# Altium footprint library PCBLib.PcbLib: 168 footprints (part 11 of 11)
Each footprint in its own frame and in the unit in brackets; x right, y up, seen from the top. Pads: shape width x height; smd on the part's side, far side on the other; paste and mask are expansions set on the pad; w line width, h text height; cw(c..) or ccw(c..) is an arc to the next point about the centre after c.
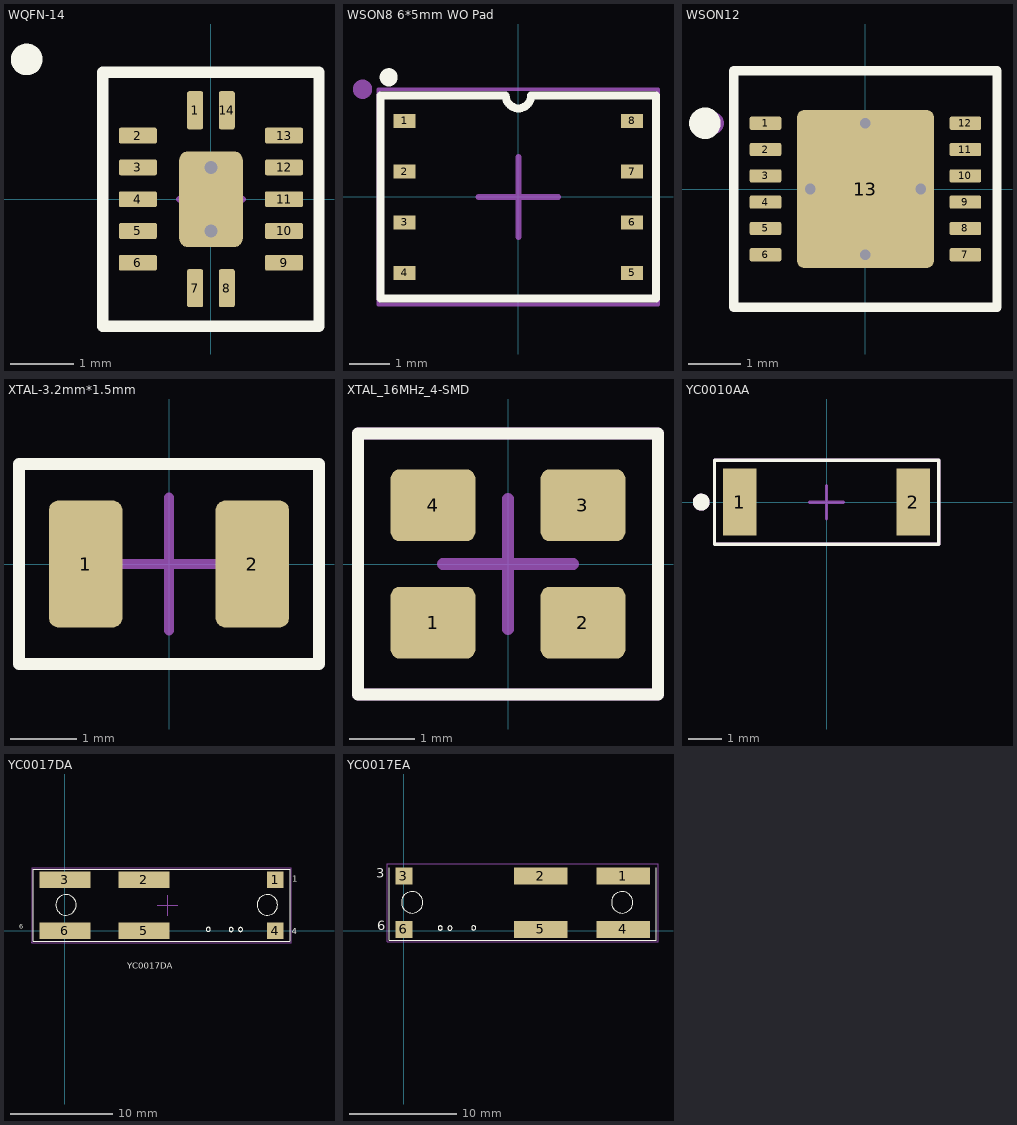
[diagram p10: the footprints below, top view; thin cyan lines are the x and y axes]

## WQFN-14 [mm]
pads (15):
  rrect25% 0.25x0.6 smd mask+0.05: 1(-0.25,1.4) 7(-0.25,-1.4) 8(0.25,-1.4) 14(0.25,1.4)
  rrect25% 0.6x0.25 smd mask+0.05: 2(-1.15,1) 3(-1.15,0.5) 4(-1.15,0) 5(-1.15,-0.5) 6(-1.15,-1) 9(1.15,-1) 10(1.15,-0.5) 11(1.15,0) 12(1.15,0.5) 13(1.15,1)
  rrect25% 1x1.5 smd mask+0.05: ""(0,0)
via 0,-0.5 diameter 0.4 hole 0.2
via 0,0.5 diameter 0.4 hole 0.2
Top Overlay:
  circle w0.254: c-2.9,2.2 r0.122
  lines w0.18: -1.7,-2 -1.7,2 1.7,2 1.7,-2 -1.7,-2
Top Assembly:
  circle w0.254: c-2.9,2.2 r0.086
  lines w0.1: -1.7,-2 -1.7,2 1.7,2 1.7,-2 -1.7,-2
Top Component Center:
  lines w0.1: -0.5,0 0.5,0 ; 0,-0.5 0,0.5
Top Courtyard:
  lines w0.05: -1.7,-2 1.7,-2 1.7,2 -1.7,2 -1.7,-2
Top Designator:
  text ".Designator" at -3.809,-0.254 h0.76
3D body "BQA0014A.stp": height 0.8, standoff 0, extent -1.25,-1.5 1.25,1.5

## WSON8 6*5mm WO Pad [mm]
pads (8):
  rect 0.55x0.35 smd: 1(-2.85,1.905) 2(-2.85,0.635) 3(-2.85,-0.635) 4(-2.85,-1.905) 5(2.85,-1.905) 6(2.85,-0.635) 7(2.85,0.635) 8(2.85,1.905)
Top Overlay:
  circle w0.254: c-3.25,3 r0.1
  lines w0.2: -3.45,-2.54 -3.45,2.54 -0.318,2.54 ccw(c0,2.54) 0.318,2.54 3.45,2.54 3.45,-2.54 -3.45,-2.54
Top Assembly:
  circle w0.254: c-3.904,2.7 r0.115
  lines w0.1: -3.5,-2.7 3.5,-2.7 3.5,2.7 -3.5,2.7 -3.5,-2.7
Top Component Center:
  lines w0.15: -1,0 1,0 ; 0,-1 0,1
Top Courtyard:
  lines w0.054: -3.5,-2.7 3.5,-2.7 3.5,2.7 -3.5,2.7 -3.5,-2.7
Top Designator:
  text ".Designator" at -3.809,-0.254 h0.76
3D body "W25Q16JVZPIQ.STEP": height 0.8, standoff 0, extent -3,-2.5 3,2.5

## WSON12 [mm] "0.5mm pitch"
pads (13):
  rrect25% 0.6x0.25 smd mask+0.05: 1(-1.9,1.25) 2(-1.9,0.75) 3(-1.9,0.25) 4(-1.9,-0.25) 5(-1.9,-0.75) 6(-1.9,-1.25) 7(1.9,-1.25) 8(1.9,-0.75) 9(1.9,-0.25) 10(1.9,0.25) 11(1.9,0.75) 12(1.9,1.25)
  rrect10% 2.6x3 smd mask+0.05: 13(0,0)
via 0,1.25 diameter 0.4 hole 0.2
via 0,-1.25 diameter 0.4 hole 0.2
via -1.05,0 diameter 0.4 hole 0.2
via 1.05,0 diameter 0.4 hole 0.2
Top Overlay:
  circle w0.3: c-3.052,1.25 r0.15
  lines w0.18: -2.5,-2.25 2.5,-2.25 2.5,2.25 -2.5,2.25 -2.5,-2.25
Top Assembly:
  circle w0.254: c-2.9,1.25 r0.083
  lines w0.15: -2.5,-2.25 -2.5,2.25 2.5,2.25 2.5,-2.25 -2.5,-2.25
Top Component Center:
  lines w0.15: -1,0 1,0 ; 0,-1 0,1
Top Courtyard:
  lines w0.05: -2.5,-2.25 -2.5,2.25 2.5,2.25 2.5,-2.25 -2.5,-2.25
Top Designator:
  text ".Designator" at -3.809,-0.254 h0.76
3D body "LM5160ADNTR.stp": height 0.97, standoff 0, extent -2,-2 2,2

## XTAL-3.2mm*1.5mm [mm]
pads (2):
  rrect25% 1.1x1.9 smd mask+0.05: 1(-1.25,0) 2(1.25,0)
Top Overlay:
  lines w0.18: -2.25,-1.5 -2.25,1.5 2.25,1.5 2.25,-1.5 -2.25,-1.5
Top Assembly:
  lines w0.15: -2.25,-1.5 2.25,-1.5 2.25,1.5 -2.25,1.5 -2.25,-1.5
Top Component Center:
  lines w0.15: -1,0 1,0 ; 0,-1 0,1
Top Courtyard:
  lines w0.1: -2.25,-1.5 2.25,-1.5 2.25,1.5 -2.25,1.5 -2.25,-1.5
Top Designator:
  text ".Designator" at -3.809,-0.254 h0.76
3D body "ABS07-32.768KHZ-T.step": height 0.89, standoff 0, extent -1.6,-0.749 1.6,0.749

## XTAL_16MHz_4-SMD [mm]
pads (4):
  rrect25% 1.3x1.1 smd mask+0.05: 1(-1.15,-0.9) 2(1.15,-0.9) 3(1.15,0.9) 4(-1.15,0.9)
Top Overlay:
  lines w0.18: -2.3,-2 2.3,-2 2.3,2 -2.3,2 -2.3,-2
Top Assembly:
  lines w0.18: -2.3,-2 -2.3,2 2.3,2 2.3,-2 -2.3,-2
Top Component Center:
  lines w0.18: -1,0 1,0 ; 0,-1 0,1
Top Courtyard:
  lines w0.05: -2.3,-2 -2.3,2 2.3,2 2.3,-2 -2.3,-2
Top Designator:
  text ".Designator" at -3.809,-0.254 h0.76
3D body "SMD_CRYSTAL_3P2X2P5_ECS.step": height 0.81, standoff 0, extent -1.651,-1.245 1.651,1.245

## YC0010AA [mm]
pads (2):
  rect 1x2 smd: 1(-2.6,0) 2(2.6,0)
Top Overlay:
  circle w0.254: c-3.748,0 r0.127
  lines w0.1: -3.354,-1.254 3.354,-1.254 3.354,1.254 -3.354,1.254 -3.354,-1.254
Top Assembly:
  circle w0.254: c-3.748,0 r0.127
  lines w0.1: -3.354,-1.254 3.354,-1.254 3.354,1.254 -3.354,1.254 -3.354,-1.254
Top Component Center:
  lines w0.1: -0.5,0 0.5,0 ; 0,-0.5 0,0.5
Top Courtyard:
  lines w0.05: -3.354,-1.254 3.354,-1.254 3.354,1.254 -3.354,1.254 -3.354,-1.254
Top Designator:
  text ".Designator" at -2.499,-0.167 h0.5
Multi-Layer:
  pour cut-out: -3.4,1.3 -3.4,-5 5.1,-5 5.1,1.3
3D body "Quectel_Antenna_YC0010AA_3D_Dimensions_Rev.A.stp": height 1.2, standoff 0, extent -2.6,-1 2.6,1

## YC0017DA [mm]
pads (6):
  rect 1.6x1.6 smd paste+0 mask+0.05: 1(20.5,5) 4(20.5,0)
  rect 5x1.6 smd paste+0 mask+0.05: 2(7.7,5) 3(0,5) 5(7.7,0) 6(0,0)
Top Overlay:
  circle w0.1: c16.202,0.134 r0.2
  circle w0.1: c13.983,0.15 r0.2
  circle w0.1: c19.735,2.535 r1
  circle w0.1: c17.116,0.138 r0.2
  circle w0.1: c0.1,2.535 r1
  lines w0.1: -3.1,-1 -3.1,6 21.9,6 21.9,-1 -3.1,-1
  text "YC0017DA" at 6.059,-3.888 h1.02
  text "6" at -4.482,0.083 h0.76
  text "1" at 22.15,4.6 h1.02
  text "4" at 22.1,-0.5 h1.02
Top Assembly:
  lines w0.01: -3.25,-1.15 22.05,-1.15 22.05,6.15 -3.25,6.15 -3.25,-1.1 -3.25,-1.15
  text ".Designator" at 7.526,2.271 h1.02
Top Component Center:
  lines w0.1: 9.005,2.49 11.005,2.49 ; 10,1.5 10,3.5
Top Designator:
  text ".Designator" at 7.776,2.271 h1.02
Multi-Layer:
  pour cut-out: -3.18,6 -3.18,-9.275 22.225,-9.275 22.234,-9.275 22.25,-9.268 22.263,-9.255 22.27,-9.239 22.27,-9.23 22.27,-2.63 22.271,-2.619 22.279,-2.599 22.294,-2.584 22.314,-2.576 22.325,-2.575 24.725,-2.575 24.734,-2.575 24.75,-2.568 24.763,-2.556 24.77,-2.539 24.77,-2.53 24.77,6
3D body "Quectel_Antenna_YC0017DA_3D_Dimensions_X2.stp": height 3.81, standoff 0.79, extent -3.139,-0.944 21.861,6.056

## YC0017EA [mm]
pads (6):
  rect 5x1.6 smd paste+0 mask+0.05: 1(20.5,5.136) 2(12.8,5.136) 4(20.5,0.136) 5(12.8,0.136)
  rect 1.6x1.6 smd paste+0 mask+0.05: 3(0,5.136) 6(0,0.136)
Top Overlay:
  circle w0.1: c3.384,0.274 r0.2
  circle w0.1: c6.517,0.286 r0.2
  circle w0.1: c4.298,0.27 r0.2
  circle w0.1: c20.4,2.671 r1
  circle w0.1: c0.765,2.671 r1
  lines w0.1: -1.4,5.917 -1.4,-0.864 23.6,-0.864 23.6,5.917
  text "3" at -2.616,4.668 h1.52
  text "6" at -2.489,-0.285 h1.52
Top Assembly:
  lines w0.01: -1.55,-1.014 -1.55,-0.964 -1.55,6.286 23.75,6.286 23.75,-1.014 -1.55,-1.014
  text ".Designator" at 5.578,2.026 h1.02
Top Designator:
  text ".Designator" at 7.585,-0.517 h1.02
Multi-Layer:
  pour cut-out: -4.25,-2.444 -4.26,-2.444 -4.278,-2.436 -4.292,-2.422 -4.3,-2.404 -4.3,-2.394 -4.3,6.136 23.65,6.136 23.65,-9.144 -1.75,-9.144 -1.76,-9.144 -1.778,-9.136 -1.792,-9.122 -1.8,-9.104 -1.8,-9.094 -1.8,-2.494 -1.801,-2.484 -1.808,-2.466 -1.822,-2.452 -1.84,-2.445 -1.85,-2.444
3D body "Quectel_Antenna_YC0017EA_3D_Dimensions_X2.stp": height 3.81, standoff 0.8, extent -1.4,-0.808 23.6,6.192